# Altium footprint library RESC1608X55N.PcbLib: 1 footprints
Each footprint in its own frame and in the unit in brackets; x right, y up, seen from the top. Pads: shape width x height; smd on the part's side, far side on the other; paste and mask are expansions set on the pad; w line width, h text height; cw(c..) or ccw(c..) is an arc to the next point about the centre after c.
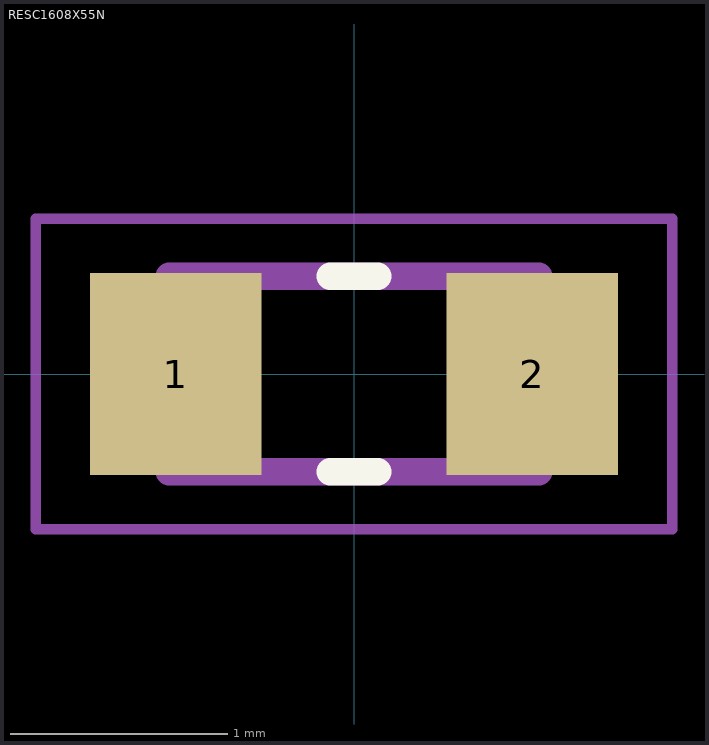
[diagram p0: the footprint, top view; thin cyan lines are the x and y axes]

## RESC1608X55N [mm]
pads (2):
  rect 0.79x0.93 smd paste+0 mask+0.102: 1(-0.82,0) 2(0.82,0)
Top Overlay:
  lines w0.127: -0.11,-0.45 0.11,-0.45 ; -0.11,0.45 0.11,0.45
Assembly Top:
  lines w0.127: -0.85,-0.45 -0.85,0.45 0.85,0.45 0.85,-0.45 -0.85,-0.45
Courtyard Top:
  lines w0.05: -1.465,-0.715 -1.465,0.715 1.465,0.715 1.465,-0.715 -1.465,-0.715
3D body "step_temp.STEP": height 0.55, standoff 0, extent -0.8,-0.4 0.8,0.4